# Altium footprint library 629722000214.PcbLib: 1 footprints
Each footprint in its own frame and in the unit in brackets; x right, y up, seen from the top. Pads: shape width x height; smd on the part's side, far side on the other; paste and mask are expansions set on the pad; w line width, h text height; cw(c..) or ccw(c..) is an arc to the next point about the centre after c.
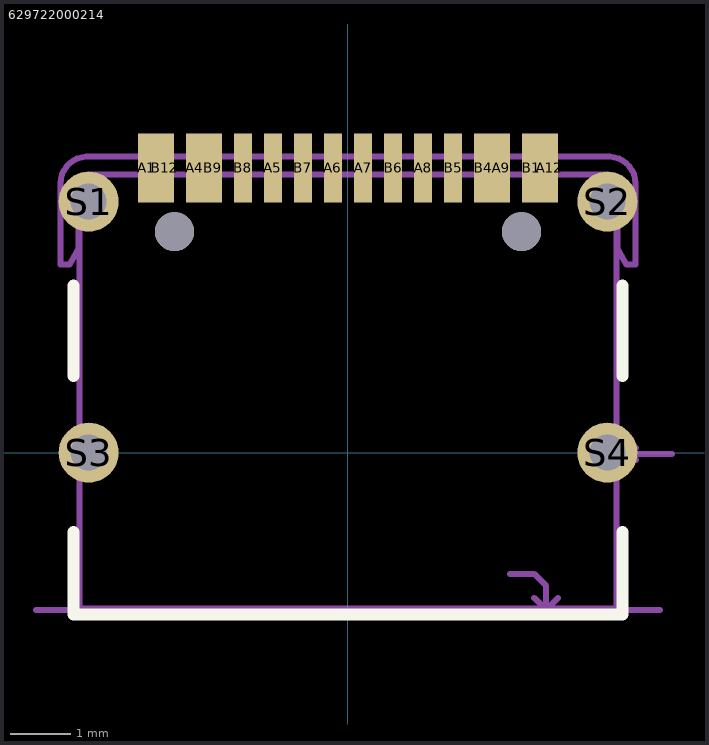
[diagram p0: the footprint, top view; thin cyan lines are the x and y axes]

## 629722000214 [mm]
pads (22):
  rect 0.3x1.15 smd paste-2 mask+0: A1(-3.35,4.745) A4(-2.55,4.745) A9(2.55,4.745) A12(3.35,4.745) B1(3.05,4.745) B4(2.25,4.745) B9(-2.25,4.745) B12(-3.05,4.745)
  rect 0.3x1.15 smd mask+102: A5(-1.25,4.745) A6(-0.25,4.745) A7(0.25,4.745) A8(1.25,4.745) B5(1.75,4.745) B6(0.75,4.745) B7(-0.75,4.745) B8(-1.75,4.745)
  round 1 hole 0.6 mask+0: S1(-4.32,4.18) S2(4.32,4.18) S3(-4.32,0) S4(4.32,0)
  round 0.65 hole 0.65 unplated: ""(-2.89,3.68) ""(2.89,3.68)
Top Overlay:
  lines w0.2: -4.57,-1.32 -4.57,-2.7 4.57,-2.7 4.57,-1.32 ; -4.57,1.28 -4.57,2.78 ; 4.57,1.28 4.57,2.78
Mechanical 1:
  text "PCB Cutout Area" at 4.3,-0.02 h127
  text "PCB Cutout Area" at -4.3,-0.02 h127
  text "PCB Cutout Area" at -4.3,4.18 h127
  text "PCB Cutout Area" at 4.3,4.18 h127
Mechanical 13:
  lines w0.1: -5.2,-2.62 5.2,-2.62 ; -4.49,3.395 -4.49,4.48 cw(c-4.34,4.48) -4.34,4.63 4.34,4.63 cw(c4.34,4.48) 4.49,4.48 4.49,3.395 ; -4.47,4.55 -4.47,3.43 ; -4.363,4.93 ccw(c-4.34,4.48) -4.79,4.48 -4.79,3.13 -4.64,3.13 -4.47,3.43 ; -4.36,4.93 4.36,4.93 ; 2.7,-2.02 3.1,-2.02 3.3,-2.22 3.3,-2.62 ; 3.1,-2.42 3.3,-2.62 ; 3.5,-2.42 3.3,-2.62 ; 4.363,4.93 cw(c4.34,4.48) 4.79,4.48 4.79,3.13 4.64,3.13 4.47,3.43 ; 4.47,4.55 4.47,3.43 ; 4.8,-0.12 4.7,-0.02 ; 4.8,0.08 4.7,-0.02 ; 5.4,-0.02 4.7,-0.02 ; -4.47,3.43 -4.47,-2.6 4.47,-2.6 4.47,3.43
  text "PCB Cutout Area" at 4.3,-0.02 h127
  text "PCB Cutout Area" at -4.3,-0.02 h127
  text "PCB Cutout Area" at -4.3,4.18 h127
  text "follow the Milling Layer" at 5.6,-1.436 h254
  text "the hole size should" at 5.6,-0.928 h254
  text "Milling Layer" at 5.6,-0.42 h254
  text "PCB Cutout Area" at 4.3,4.18 h127
  text "Product Edge" at 0,-2.22 h1.52
3D body "step_temp.STEP": height 2.97, standoff -4.74, extent -4.79,-1.58 4.79,2.58